# Altium schematic symbol library DMG2305UX-7.Schlib: 1 symbol
Pins are listed as number, name and electrical type; pins without a type are passive.

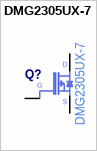
[diagram p0: symbol DMG2305UX-7]

## DMG2305UX-7
designator Q?
pins: 1 G, 2 S, 3 D